# EAGLE library part UNIT_BATTERY_CHARGER (library UNIT_Biblioteca_Modulos)
UNIT Battery Charger Source: Datasheet <https://unit-electronics.github.io/UNIT-LiPo-Charger-Boost-I2C-Monitor/usage_mp.html> SKU: UE0001 Propietario: UNIT Electronics Desarrollador: Alberto Villanueva
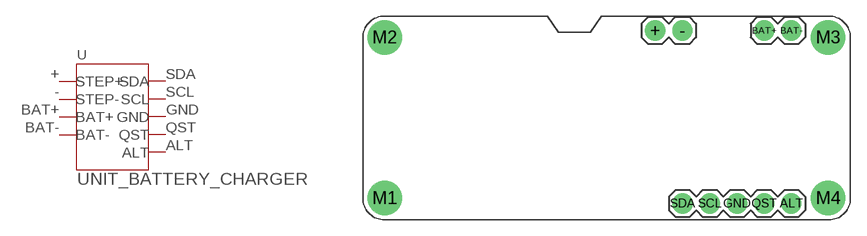
[diagram p16: symbol with the pads of UNIT_BATTERY_CHARGER; footprint UNIT_BATTERY_CHARGER]

Designator prefix U

## UNIT_BATTERY_CHARGER (CLASS: Module; DESCRIPTION: UNIT Battery Charger; MANUFACTURER_NAME: UNIT Electronics; MANUFACTURER_PART_NUMBER: UNIT Battery Charger; SKU: UE0001; VENDOR_PART_NUMBER: AR4350; VENDOR_PRICE-STOCK: https://uelectronics.com/producto/unit-cargador-de-bateria-lipo-boost-i2c/)  [UNIT_BATTERY_CHARGER]
+  STEP+
-  STEP-
ALT  ALT
BAT+  BAT+
BAT-  BAT-
GND  GND
QST  QST
SCL  SCL
SDA  SDA

## Footprint UNIT_BATTERY_CHARGER (pad centres in mm)
drill 1.016 pad 1.88: + 27.273,17.653; - 29.813,17.653; ALT 39.997,1.524; BAT+ 37.457,17.653; BAT- 39.997,17.653; GND 34.917,1.524; QST 37.457,1.524; SCL 32.377,1.524; SDA 29.837,1.524
drill 2.2: M1 2.032,2.032; M2 2.032,17.018; M3 43.426,17.018; M4 43.426,2.032